# Altium integrated library NSC MiscPower.IntLib: 1417 symbols (part 27 of 39)
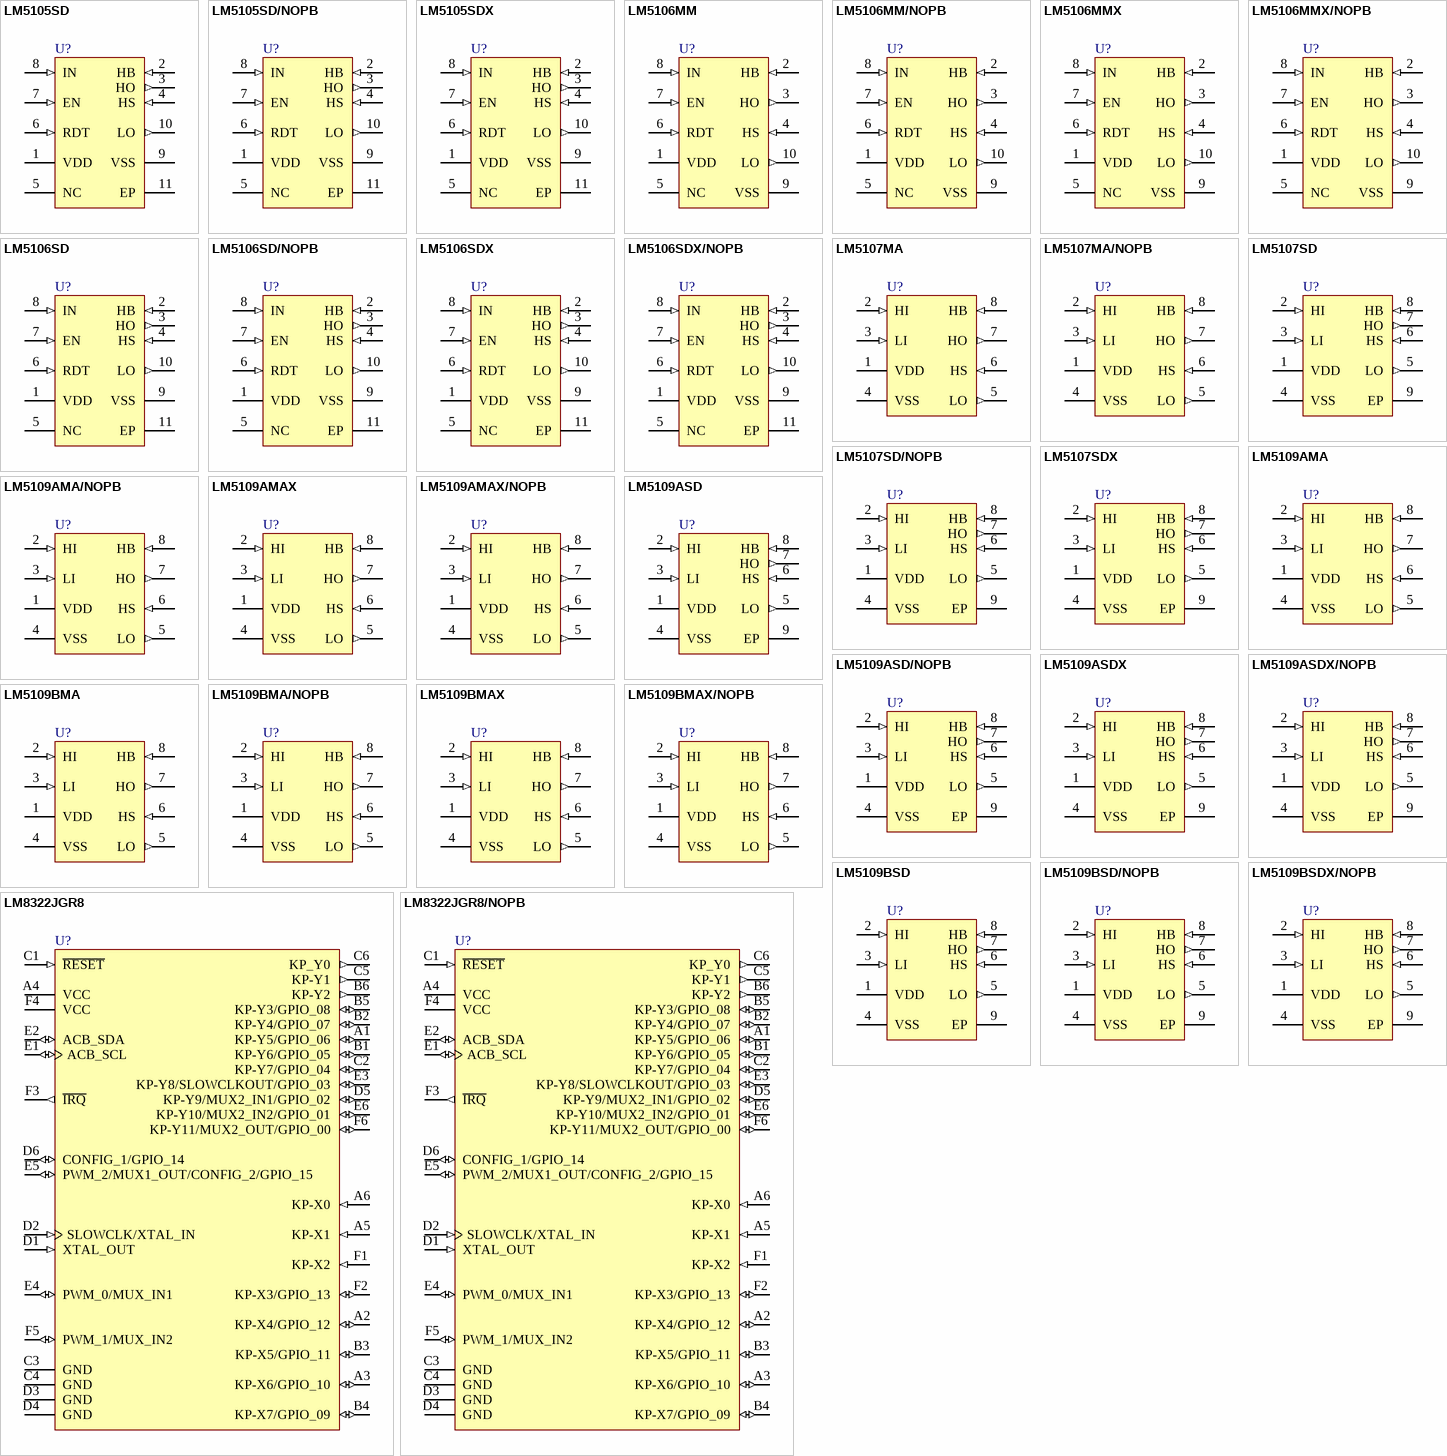
[diagram p77: symbols LM5105SD to LM8322JGR8/NOPB]

## LM5109BSDX/NOPB
designator U?
High Voltage 1A Peak Half Bridge Gate Driver, 8-pin LLP, Pb-Free; PartNumber: LM5109BSDX/NOPB; Manufacturer: National Semiconductor; PackageTopMarking: NS*UZXYTT*5109BSD; PowerWise: N; CompType: MiscPower; Published: 1-Mar-2010; DatasheetVersion: Feb-2007; PackageVersion: revA, Jun-2003; PackageReference: SDC08A; Publisher: Altium Limited; PackageDescription: LLP, Plastic, Dual, 4 x 4 x 0.8mm Body, 8 Lead, 0.8mm Pitch, No Pullback; Supplier 1: Digi-Key; Supplier Part Number 1: LM5109BSDX-ND; RoHS: Y; PinCount: 8; ComponentLink1Description: LM5109B Datasheet; ComponentLink1URL: http://www.national.com/ds/LM/LM5109B.pdf; ComponentLink2Description: LM5109B Web Page; ComponentLink2URL: http://www.national.com/pf/LM/LM5109B.html; ComponentLink3Description: SDC08A Package Page; ComponentLink3URL: http://www.national.com/packaging/folders/sdc08a.html
footprint SDC08A (SON, 8-Leads, Body 4x4mm, Pitch 0.8mm, NSC Recommended)
pins: 1 VDD (power), 2 HI (in), 3 LI (in), 4 VSS (power), 5 LO (out), 6 HS (in), 7 HO (out), 8 HB (in), 9 EP (power)

## LM8322JGR8
designator U?
Mobile I/O Companion Supporting Key-Scan, I/O Expansion, PWM, and ACCESS.bus Host Interface, 36-pin Micro-Array; PartNumber: LM8322JGR8; Manufacturer: National Semiconductor; PackageTopMarking: NS*UZXYTT*LM8322; PowerWise: N; CompType: MiscPower; Published: 4-Dec-2008; DatasheetVersion: May-2007; PackageVersion: revA, Mar-2004; PackageReference: GRA36A; Publisher: Altium Limited; PackageDescription: Micro-Array, 3.5 x 3.5 x 1mm, 36 Ball, 0.5mm Pitch; RoHS: Y; PinCount: 36; ComponentLink1Description: LM8322 Datasheet; ComponentLink1URL: http://www.national.com/ds/LM/LM8322.pdf; ComponentLink2Description: LM8322 Web Page; ComponentLink2URL: http://www.national.com/pf/LM/LM8322.html; ComponentLink3Description: GRA36A Package Page; ComponentLink3URL: http://www.national.com/packaging/folders/gra36a.html
footprint GRA36A (BGA, 36-Leads, Body 3.5x3.5mm, Pitch 0.5mm, NSC Recommended)
pins: A1 KP-Y5/GPIO_06 (io) "Keyboard scanning output 5, General-purpose I/O port 6", A2 KP-X4/GPIO_12 (io) "Wake-up input/Keyboard scanning input 4, General-purpose I/O port 12", A3 KP-X6/GPIO_10 (io) "Wake-up input/Keyboard scanning input 6, General-purpose I/O port 10", A4 VCC (power), A5 KP-X1 (in) "Wake-up input/Keyboard scanning input 1", A6 KP-X0 (in) "Wake-up input/Keyboard scanning input 0", B1 KP-Y6/GPIO_05 (io) "Keyboard scanning output 6, General-purpose I/O port 5", B2 KP-Y4/GPIO_07 (io) "Keyboard scanning output 4, General-purpose I/O port 7", B3 KP-X5/GPIO_11 (io) "Wake-up input/Keyboard scanning input 5, General-purpose I/O port 11", B4 KP-X7/GPIO_09 (io) "Wake-up input/Keyboard scanning input 7, General-purpose I/O port 9", B5 KP-Y3/GPIO_08 (io) "Keyboard scanning output 3, General-purpose I/O port 8", B6 KP-Y2 (out) "Keyboard scanning output 2", C1 ~{RESET} (in) "Reset Input", C2 KP-Y7/GPIO_04 (io) "Keyboard scanning output 7, General-purpose I/O port 4", C3 GND (power) "Ground", C4 GND (power) "Ground", C5 KP-Y1 (out) "Keyboard scanning output 1", C6 KP_Y0 (out) "Keyboard scanning output 0", D1 XTAL_OUT (in) "32.768 kHz crystal output", D2 SLOWCLK/XTAL_IN (in) "32.768 kHz clock, 32.768 kHz crystal input", D3 GND (power) "Ground", D4 GND (power) "Ground", D5 KP-Y9/MUX2_IN1/GPIO_02 (io) "Keyboard scanning output 9, Multiplexer 2 input 1, General-purpose I/O port 2", D6 CONFIG_1/GPIO_14 (io) "Slave address select input 1, General-purpose I/O port 14", E1 ACB_SCL (io) "ACCESS.bus clock signal", E2 ACB_SDA (io) "ACCESS.bus data signal", E3 KP-Y8/SLOWCLKOUT/GPIO_03 (io) "Keyboard scanning output 8, 32.768 kHz clock output, General-purpose I/O port 3", E4 PWM_0/MUX_IN1 (io) "Pulse-width modulated output 0, Multiplexer 1 input 1", E5 PWM_2/MUX1_OUT/CONFIG_2/GPIO_15 (io) "Pulse-width modulated output 2, Multiplexer 1 output, Slave address select input 2, General-purpose I/O port 15", E6 KP-Y10/MUX2_IN2/GPIO_01 (io) "Keyboard scanning output 10, Multiplexer 2 input 2, General-purpose I/O port 1", F1 KP-X2 (in) "Wake-up input/Keyboard scanning input 2", F2 KP-X3/GPIO_13 (io) "Wake-up input/Keyboard scanning input 3, General-purpose I/O port 13", F3 ~{IRQ} (out) "Interrupt request output", F4 VCC (power), F5 PWM_1/MUX_IN2 (io) "Pulse-width modulated output 1, Multiplexer 1 input 2", F6 KP-Y11/MUX2_OUT/GPIO_00 (io) "Keyboard scanning output 11, Multiplexer 2 output, General-purpose I/O port 0"

## LM8322JGR8/NOPB
designator U?
Mobile I/O Companion Supporting Key-Scan, I/O Expansion, PWM, and ACCESS.bus Host Interface, 36-pin Micro-Array, Pb-Free; PartNumber: LM8322JGR8/NOPB; Manufacturer: National Semiconductor; PackageTopMarking: NS*UZXYTT*LM8322; PowerWise: N; CompType: MiscPower; Published: 1-Mar-2010; DatasheetVersion: May-2007; PackageVersion: revA, Mar-2004; PackageReference: GRA36A; Publisher: Altium Limited; PackageDescription: Micro-Array, 3.5 x 3.5 x 1mm, 36 Ball, 0.5mm Pitch; Supplier 1: Digi-Key; Supplier Part Number 1: LM8322JGR8TR-ND; Supplier 2: Digi-Key; Supplier Part Number 2: LM8322JGR8CT-ND; Supplier 3: Digi-Key; Supplier Part Number 3: LM8322JGR8DKR-ND; RoHS: Y; PinCount: 36; ComponentLink1Description: LM8322 Datasheet; ComponentLink1URL: http://www.national.com/ds/LM/LM8322.pdf; ComponentLink2Description: LM8322 Web Page; ComponentLink2URL: http://www.national.com/pf/LM/LM8322.html; ComponentLink3Description: GRA36A Package Page; ComponentLink3URL: http://www.national.com/packaging/folders/gra36a.html
footprint GRA36A (BGA, 36-Leads, Body 3.5x3.5mm, Pitch 0.5mm, NSC Recommended)
pins: A1 KP-Y5/GPIO_06 (io) "Keyboard scanning output 5, General-purpose I/O port 6", A2 KP-X4/GPIO_12 (io) "Wake-up input/Keyboard scanning input 4, General-purpose I/O port 12", A3 KP-X6/GPIO_10 (io) "Wake-up input/Keyboard scanning input 6, General-purpose I/O port 10", A4 VCC (power), A5 KP-X1 (in) "Wake-up input/Keyboard scanning input 1", A6 KP-X0 (in) "Wake-up input/Keyboard scanning input 0", B1 KP-Y6/GPIO_05 (io) "Keyboard scanning output 6, General-purpose I/O port 5", B2 KP-Y4/GPIO_07 (io) "Keyboard scanning output 4, General-purpose I/O port 7", B3 KP-X5/GPIO_11 (io) "Wake-up input/Keyboard scanning input 5, General-purpose I/O port 11", B4 KP-X7/GPIO_09 (io) "Wake-up input/Keyboard scanning input 7, General-purpose I/O port 9", B5 KP-Y3/GPIO_08 (io) "Keyboard scanning output 3, General-purpose I/O port 8", B6 KP-Y2 (out) "Keyboard scanning output 2", C1 ~{RESET} (in) "Reset Input", C2 KP-Y7/GPIO_04 (io) "Keyboard scanning output 7, General-purpose I/O port 4", C3 GND (power) "Ground", C4 GND (power) "Ground", C5 KP-Y1 (out) "Keyboard scanning output 1", C6 KP_Y0 (out) "Keyboard scanning output 0", D1 XTAL_OUT (in) "32.768 kHz crystal output", D2 SLOWCLK/XTAL_IN (in) "32.768 kHz clock, 32.768 kHz crystal input", D3 GND (power) "Ground", D4 GND (power) "Ground", D5 KP-Y9/MUX2_IN1/GPIO_02 (io) "Keyboard scanning output 9, Multiplexer 2 input 1, General-purpose I/O port 2", D6 CONFIG_1/GPIO_14 (io) "Slave address select input 1, General-purpose I/O port 14", E1 ACB_SCL (io) "ACCESS.bus clock signal", E2 ACB_SDA (io) "ACCESS.bus data signal", E3 KP-Y8/SLOWCLKOUT/GPIO_03 (io) "Keyboard scanning output 8, 32.768 kHz clock output, General-purpose I/O port 3", E4 PWM_0/MUX_IN1 (io) "Pulse-width modulated output 0, Multiplexer 1 input 1", E5 PWM_2/MUX1_OUT/CONFIG_2/GPIO_15 (io) "Pulse-width modulated output 2, Multiplexer 1 output, Slave address select input 2, General-purpose I/O port 15", E6 KP-Y10/MUX2_IN2/GPIO_01 (io) "Keyboard scanning output 10, Multiplexer 2 input 2, General-purpose I/O port 1", F1 KP-X2 (in) "Wake-up input/Keyboard scanning input 2", F2 KP-X3/GPIO_13 (io) "Wake-up input/Keyboard scanning input 3, General-purpose I/O port 13", F3 ~{IRQ} (out) "Interrupt request output", F4 VCC (power), F5 PWM_1/MUX_IN2 (io) "Pulse-width modulated output 1, Multiplexer 1 input 2", F6 KP-Y11/MUX2_OUT/GPIO_00 (io) "Keyboard scanning output 11, Multiplexer 2 output, General-purpose I/O port 0"

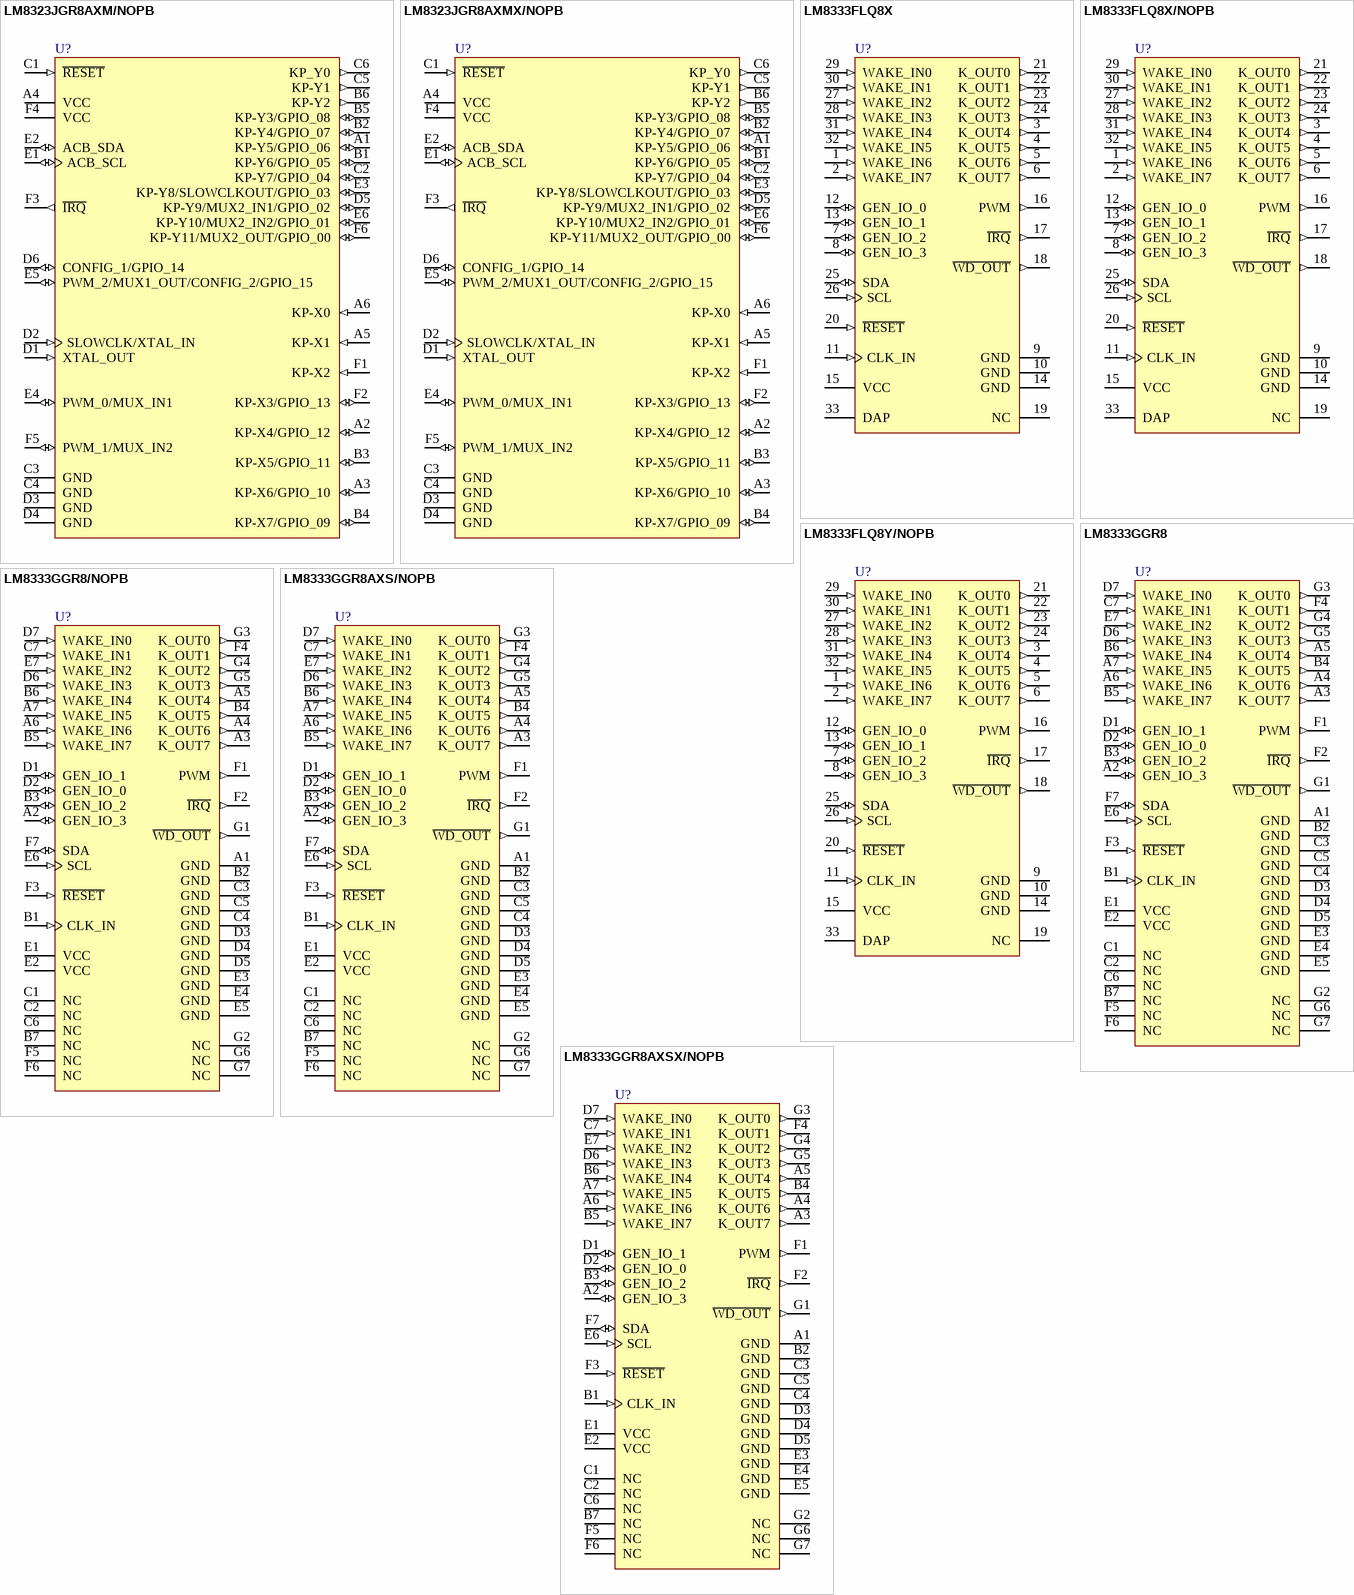
[diagram p29: symbols LM8323JGR8AXM/NOPB to LM8333GGR8AXSX/NOPB]

## LM8323JGR8AXM/NOPB
designator U?
Mobile I/O Companion Supporting Keyscan, I/O Expansion, PWM, and ACCESS.bus Host Interface, 36 pin MICRO-ARRAY; PartNumber: LM8323JGR8AXM/NOPB; Manufacturer: National Semiconductor; PackageTopMarking: NS*UZXYTT*LM8323; PowerWise: N; CompType: MiscPower; Published: 16-Nov-2010; DatasheetVersion: Jul-2010; PackageVersion: revA, Mar-2004; PackageReference: GRA36A; Publisher: Altium Limited; PackageDescription: Micro-Array, 3.5 x 3.5 x 1mm, 36 Ball, 0.5mm Pitch; RoHS: Y; PinCount: 36; ComponentLink1Description: LM8323 Datasheet; ComponentLink1URL: http://www.national.com/ds/LM/LM8323.pdf; ComponentLink2Description: LM8323 Web Page; ComponentLink2URL: http://www.national.com/pf/LM/LM8323.html; ComponentLink3Description: GRA36A Package Page; ComponentLink3URL: http://www.national.com/packaging/folders/gra36a.html
footprint GRA36A (BGA, 36-Leads, Body 3.5x3.5mm, Pitch 0.5mm, NSC Recommended)
pins: A1 KP-Y5/GPIO_06 (io) "Keyboard scanning output 5, General-purpose I/O port 6", A2 KP-X4/GPIO_12 (io) "Wake-up input/Keyboard scanning input 4, General-purpose I/O port 12", A3 KP-X6/GPIO_10 (io) "Wake-up input/Keyboard scanning input 6, General-purpose I/O port 10", A4 VCC (power), A5 KP-X1 (in) "Wake-up input/Keyboard scanning input 1", A6 KP-X0 (in) "Wake-up input/Keyboard scanning input 0", B1 KP-Y6/GPIO_05 (io) "Keyboard scanning output 6, General-purpose I/O port 5", B2 KP-Y4/GPIO_07 (io) "Keyboard scanning output 4, General-purpose I/O port 7", B3 KP-X5/GPIO_11 (io) "Wake-up input/Keyboard scanning input 5, General-purpose I/O port 11", B4 KP-X7/GPIO_09 (io) "Wake-up input/Keyboard scanning input 7, General-purpose I/O port 9", B5 KP-Y3/GPIO_08 (io) "Keyboard scanning output 3, General-purpose I/O port 8", B6 KP-Y2 (out) "Keyboard scanning output 2", C1 ~{RESET} (in) "Reset Input", C2 KP-Y7/GPIO_04 (io) "Keyboard scanning output 7, General-purpose I/O port 4", C3 GND (power) "Ground", C4 GND (power) "Ground", C5 KP-Y1 (out) "Keyboard scanning output 1", C6 KP_Y0 (out) "Keyboard scanning output 0", D1 XTAL_OUT (in) "32.768 kHz crystal output", D2 SLOWCLK/XTAL_IN (in) "32.768 kHz clock, 32.768 kHz crystal input", D3 GND (power) "Ground", D4 GND (power) "Ground", D5 KP-Y9/MUX2_IN1/GPIO_02 (io) "Keyboard scanning output 9, Multiplexer 2 input 1, General-purpose I/O port 2", D6 CONFIG_1/GPIO_14 (io) "Slave address select input 1, General-purpose I/O port 14", E1 ACB_SCL (io) "ACCESS.bus clock signal", E2 ACB_SDA (io) "ACCESS.bus data signal", E3 KP-Y8/SLOWCLKOUT/GPIO_03 (io) "Keyboard scanning output 8, 32.768 kHz clock output, General-purpose I/O port 3", E4 PWM_0/MUX_IN1 (io) "Pulse-width modulated output 0, Multiplexer 1 input 1", E5 PWM_2/MUX1_OUT/CONFIG_2/GPIO_15 (io) "Pulse-width modulated output 2, Multiplexer 1 output, Slave address select input 2, General-purpose I/O port 15", E6 KP-Y10/MUX2_IN2/GPIO_01 (io) "Keyboard scanning output 10, Multiplexer 2 input 2, General-purpose I/O port 1", F1 KP-X2 (in) "Wake-up input/Keyboard scanning input 2", F2 KP-X3/GPIO_13 (io) "Wake-up input/Keyboard scanning input 3, General-purpose I/O port 13", F3 ~{IRQ} (out) "Interrupt request output", F4 VCC (power), F5 PWM_1/MUX_IN2 (io) "Pulse-width modulated output 1, Multiplexer 1 input 2", F6 KP-Y11/MUX2_OUT/GPIO_00 (io) "Keyboard scanning output 11, Multiplexer 2 output, General-purpose I/O port 0"

## LM8323JGR8AXMX/NOPB
designator U?
Mobile I/O Companion Supporting Keyscan, I/O Expansion, PWM, and ACCESS.bus Host Interface, 36 pin MICRO-ARRAY; PartNumber: LM8323JGR8AXMX/NOPB; Manufacturer: National Semiconductor; PackageTopMarking: NS*UZXYTT*LM8323; PowerWise: N; CompType: MiscPower; Published: 16-Nov-2010; DatasheetVersion: Jul-2010; PackageVersion: revA, Mar-2004; PackageReference: GRA36A; Publisher: Altium Limited; PackageDescription: Micro-Array, 3.5 x 3.5 x 1mm, 36 Ball, 0.5mm Pitch; RoHS: Y; PinCount: 36; ComponentLink1Description: LM8323 Datasheet; ComponentLink1URL: http://www.national.com/ds/LM/LM8323.pdf; ComponentLink2Description: LM8323 Web Page; ComponentLink2URL: http://www.national.com/pf/LM/LM8323.html; ComponentLink3Description: GRA36A Package Page; ComponentLink3URL: http://www.national.com/packaging/folders/gra36a.html
footprint GRA36A (BGA, 36-Leads, Body 3.5x3.5mm, Pitch 0.5mm, NSC Recommended)
pins: A1 KP-Y5/GPIO_06 (io) "Keyboard scanning output 5, General-purpose I/O port 6", A2 KP-X4/GPIO_12 (io) "Wake-up input/Keyboard scanning input 4, General-purpose I/O port 12", A3 KP-X6/GPIO_10 (io) "Wake-up input/Keyboard scanning input 6, General-purpose I/O port 10", A4 VCC (power), A5 KP-X1 (in) "Wake-up input/Keyboard scanning input 1", A6 KP-X0 (in) "Wake-up input/Keyboard scanning input 0", B1 KP-Y6/GPIO_05 (io) "Keyboard scanning output 6, General-purpose I/O port 5", B2 KP-Y4/GPIO_07 (io) "Keyboard scanning output 4, General-purpose I/O port 7", B3 KP-X5/GPIO_11 (io) "Wake-up input/Keyboard scanning input 5, General-purpose I/O port 11", B4 KP-X7/GPIO_09 (io) "Wake-up input/Keyboard scanning input 7, General-purpose I/O port 9", B5 KP-Y3/GPIO_08 (io) "Keyboard scanning output 3, General-purpose I/O port 8", B6 KP-Y2 (out) "Keyboard scanning output 2", C1 ~{RESET} (in) "Reset Input", C2 KP-Y7/GPIO_04 (io) "Keyboard scanning output 7, General-purpose I/O port 4", C3 GND (power) "Ground", C4 GND (power) "Ground", C5 KP-Y1 (out) "Keyboard scanning output 1", C6 KP_Y0 (out) "Keyboard scanning output 0", D1 XTAL_OUT (in) "32.768 kHz crystal output", D2 SLOWCLK/XTAL_IN (in) "32.768 kHz clock, 32.768 kHz crystal input", D3 GND (power) "Ground", D4 GND (power) "Ground", D5 KP-Y9/MUX2_IN1/GPIO_02 (io) "Keyboard scanning output 9, Multiplexer 2 input 1, General-purpose I/O port 2", D6 CONFIG_1/GPIO_14 (io) "Slave address select input 1, General-purpose I/O port 14", E1 ACB_SCL (io) "ACCESS.bus clock signal", E2 ACB_SDA (io) "ACCESS.bus data signal", E3 KP-Y8/SLOWCLKOUT/GPIO_03 (io) "Keyboard scanning output 8, 32.768 kHz clock output, General-purpose I/O port 3", E4 PWM_0/MUX_IN1 (io) "Pulse-width modulated output 0, Multiplexer 1 input 1", E5 PWM_2/MUX1_OUT/CONFIG_2/GPIO_15 (io) "Pulse-width modulated output 2, Multiplexer 1 output, Slave address select input 2, General-purpose I/O port 15", E6 KP-Y10/MUX2_IN2/GPIO_01 (io) "Keyboard scanning output 10, Multiplexer 2 input 2, General-purpose I/O port 1", F1 KP-X2 (in) "Wake-up input/Keyboard scanning input 2", F2 KP-X3/GPIO_13 (io) "Wake-up input/Keyboard scanning input 3, General-purpose I/O port 13", F3 ~{IRQ} (out) "Interrupt request output", F4 VCC (power), F5 PWM_1/MUX_IN2 (io) "Pulse-width modulated output 1, Multiplexer 1 input 2", F6 KP-Y11/MUX2_OUT/GPIO_00 (io) "Keyboard scanning output 11, Multiplexer 2 output, General-purpose I/O port 0"

## LM8333FLQ8X
designator U?
Mobile I/O Companion Supporting Key-Scan, I/O Expansion, PWM, and ACCESS.bus Host Interface, 32-pin LLP; PartNumber: LM8333FLQ8X; Manufacturer: National Semiconductor; PackageTopMarking: NS*UZXYTT*LM8333F; PowerWise: N; CompType: MiscPower; Published: 4-Dec-2008; DatasheetVersion: May-2010; PackageVersion: revA, Feb-2001; PackageReference: LQA32A; Publisher: Altium Limited; PackageDescription: LLP, Plastic, Quad, 6 x 6 x 0.8mm Body, 32 Lead, 0.5mm Pitch; RoHS: Y; PinCount: 32; ComponentLink1Description: LM8333 Datasheet; ComponentLink1URL: http://www.national.com/ds/LM/LM8333.pdf; ComponentLink2Description: LM8333 Web Page; ComponentLink2URL: http://www.national.com/pf/LM/LM8333.html; ComponentLink3Description: LQA32A Package Page; ComponentLink3URL: http://www.national.com/packaging/folders/lqa32a.html
footprint LQA32A (PQFN, 32-Leads, Body 6x6mm, Pitch 0.5mm, NSC Recommended)
pins: 1 WAKE_IN6 (in) "Wake-up input/Keyboard scanning input 6", 2 WAKE_IN7 (in) "Wake-up input/Keyboard scanning input 7", 3 K_OUT4 (out) "Keyboard scanning output 4", 4 K_OUT5 (out) "Keyboard scanning output 5", 5 K_OUT6 (out) "Keyboard scanning output 6", 6 K_OUT7 (out) "Keyboard scanning output 7", 7 GEN_IO_2 (io) "General-purpose I/O 2", 8 GEN_IO_3 (io) "General-purpose I/O 3", 9 GND (power) "Ground", 10 GND (power) "Ground", 11 CLK_IN (in) "Clock input", 12 GEN_IO_0 (io) "General-purpose I/O 0", 13 GEN_IO_1 (io) "General-purpose I/O 1", 14 GND (power) "Ground", 15 VCC (power) "Vcc", 16 PWM (out) "Pulse-width modulated output", 17 ~{IRQ} (out) "Interrupt request output", 18 ~{WD_OUT} (out) "Watchdog timer output", 19 NC "No connect", 20 ~{RESET} (in) "Reset input", 21 K_OUT0 (out) "Keyboard scanning output 0", 22 K_OUT1 (out) "Keyboard scanning output 1", 23 K_OUT2 (out) "Keyboard scanning output 2", 24 K_OUT3 (out) "Keyboard scanning output 3", 25 SDA (io) "ACCESS.bus data signal", 26 SCL (in) "ACCESS.bus clock signal", 27 WAKE_IN2 (in) "Wake-up input/Keyboard scanning input 2", 28 WAKE_IN3 (in) "Wake-up input/Keyboard scanning input 3", 29 WAKE_IN0 (in) "Wake-up input/Keyboard scanning input 0", 30 WAKE_IN1 (in) "Wake-up input/Keyboard scanning input 1", 31 WAKE_IN4 (in) "Wake-up input/Keyboard scanning input 4", 32 WAKE_IN5 (in) "Wake-up input/Keyboard scanning input 5", 33 DAP (power) "Ground"

## LM8333FLQ8X/NOPB
designator U?
Mobile I/O Companion Supporting Key-Scan, I/O Expansion, PWM, and ACCESS.bus Host Interface, 32-pin LLP, Pb-Free; PartNumber: LM8333FLQ8X/NOPB; Manufacturer: National Semiconductor; PackageTopMarking: NS*UZXYTTE#*LM8333F; PowerWise: N; CompType: MiscPower; Published: 1-Mar-2010; DatasheetVersion: May-2010; PackageVersion: revA, Feb-2001; PackageReference: LQA32A; Publisher: Altium Limited; PackageDescription: LLP, Plastic, Quad, 6 x 6 x 0.8mm Body, 32 Lead, 0.5mm Pitch; Supplier 1: Digi-Key; Supplier Part Number 1: LM8333FLQ8X-ND; RoHS: Y; PinCount: 32; ComponentLink1Description: LM8333 Datasheet; ComponentLink1URL: http://www.national.com/ds/LM/LM8333.pdf; ComponentLink2Description: LM8333 Web Page; ComponentLink2URL: http://www.national.com/pf/LM/LM8333.html; ComponentLink3Description: LQA32A Package Page; ComponentLink3URL: http://www.national.com/packaging/folders/lqa32a.html
footprint LQA32A (PQFN, 32-Leads, Body 6x6mm, Pitch 0.5mm, NSC Recommended)
pins: 1 WAKE_IN6 (in) "Wake-up input/Keyboard scanning input 6", 2 WAKE_IN7 (in) "Wake-up input/Keyboard scanning input 7", 3 K_OUT4 (out) "Keyboard scanning output 4", 4 K_OUT5 (out) "Keyboard scanning output 5", 5 K_OUT6 (out) "Keyboard scanning output 6", 6 K_OUT7 (out) "Keyboard scanning output 7", 7 GEN_IO_2 (io) "General-purpose I/O 2", 8 GEN_IO_3 (io) "General-purpose I/O 3", 9 GND (power) "Ground", 10 GND (power) "Ground", 11 CLK_IN (in) "Clock input", 12 GEN_IO_0 (io) "General-purpose I/O 0", 13 GEN_IO_1 (io) "General-purpose I/O 1", 14 GND (power) "Ground", 15 VCC (power) "Vcc", 16 PWM (out) "Pulse-width modulated output", 17 ~{IRQ} (out) "Interrupt request output", 18 ~{WD_OUT} (out) "Watchdog timer output", 19 NC "No connect", 20 ~{RESET} (in) "Reset input", 21 K_OUT0 (out) "Keyboard scanning output 0", 22 K_OUT1 (out) "Keyboard scanning output 1", 23 K_OUT2 (out) "Keyboard scanning output 2", 24 K_OUT3 (out) "Keyboard scanning output 3", 25 SDA (io) "ACCESS.bus data signal", 26 SCL (in) "ACCESS.bus clock signal", 27 WAKE_IN2 (in) "Wake-up input/Keyboard scanning input 2", 28 WAKE_IN3 (in) "Wake-up input/Keyboard scanning input 3", 29 WAKE_IN0 (in) "Wake-up input/Keyboard scanning input 0", 30 WAKE_IN1 (in) "Wake-up input/Keyboard scanning input 1", 31 WAKE_IN4 (in) "Wake-up input/Keyboard scanning input 4", 32 WAKE_IN5 (in) "Wake-up input/Keyboard scanning input 5", 33 DAP (power) "Ground"

## LM8333FLQ8Y/NOPB
designator U?
Mobile I/O Companion Supporting Key-Scan, I/O Expansion, PWM, and ACCESS.bus Host Interface, 32-pin LLP, Pb-Free; PartNumber: LM8333FLQ8Y/NOPB; Manufacturer: National Semiconductor; PackageTopMarking: NS*UZXYTTE#*LM8333F; PowerWise: N; CompType: MiscPower; Published: 1-Mar-2010; DatasheetVersion: May-2010; PackageVersion: revA, Feb-2001; PackageReference: LQA32A; Publisher: Altium Limited; PackageDescription: LLP, Plastic, Quad, 6 x 6 x 0.8mm Body, 32 Lead, 0.5mm Pitch; Supplier 1: Digi-Key; Supplier Part Number 1: LM8333FLQ8YTR-ND; Supplier 2: Digi-Key; Supplier Part Number 2: LM8333FLQ8YCT-ND; Supplier 3: Digi-Key; Supplier Part Number 3: LM8333FLQ8YDKR-ND; RoHS: Y; PinCount: 32; ComponentLink1Description: LM8333 Datasheet; ComponentLink1URL: http://www.national.com/ds/LM/LM8333.pdf; ComponentLink2Description: LM8333 Web Page; ComponentLink2URL: http://www.national.com/pf/LM/LM8333.html; ComponentLink3Description: LQA32A Package Page; ComponentLink3URL: http://www.national.com/packaging/folders/lqa32a.html
footprint LQA32A (PQFN, 32-Leads, Body 6x6mm, Pitch 0.5mm, NSC Recommended)
pins: 1 WAKE_IN6 (in) "Wake-up input/Keyboard scanning input 6", 2 WAKE_IN7 (in) "Wake-up input/Keyboard scanning input 7", 3 K_OUT4 (out) "Keyboard scanning output 4", 4 K_OUT5 (out) "Keyboard scanning output 5", 5 K_OUT6 (out) "Keyboard scanning output 6", 6 K_OUT7 (out) "Keyboard scanning output 7", 7 GEN_IO_2 (io) "General-purpose I/O 2", 8 GEN_IO_3 (io) "General-purpose I/O 3", 9 GND (power) "Ground", 10 GND (power) "Ground", 11 CLK_IN (in) "Clock input", 12 GEN_IO_0 (io) "General-purpose I/O 0", 13 GEN_IO_1 (io) "General-purpose I/O 1", 14 GND (power) "Ground", 15 VCC (power) "Vcc", 16 PWM (out) "Pulse-width modulated output", 17 ~{IRQ} (out) "Interrupt request output", 18 ~{WD_OUT} (out) "Watchdog timer output", 19 NC "No connect", 20 ~{RESET} (in) "Reset input", 21 K_OUT0 (out) "Keyboard scanning output 0", 22 K_OUT1 (out) "Keyboard scanning output 1", 23 K_OUT2 (out) "Keyboard scanning output 2", 24 K_OUT3 (out) "Keyboard scanning output 3", 25 SDA (io) "ACCESS.bus data signal", 26 SCL (in) "ACCESS.bus clock signal", 27 WAKE_IN2 (in) "Wake-up input/Keyboard scanning input 2", 28 WAKE_IN3 (in) "Wake-up input/Keyboard scanning input 3", 29 WAKE_IN0 (in) "Wake-up input/Keyboard scanning input 0", 30 WAKE_IN1 (in) "Wake-up input/Keyboard scanning input 1", 31 WAKE_IN4 (in) "Wake-up input/Keyboard scanning input 4", 32 WAKE_IN5 (in) "Wake-up input/Keyboard scanning input 5", 33 DAP (power) "Ground"

## LM8333GGR8
designator U?
Mobile I/O Companion Supporting Key-Scan, I/O Expansion, PWM, and ACCESS.bus Host Interface, 49-pin Micro-Array; PartNumber: LM8333GGR8; Manufacturer: National Semiconductor; PackageTopMarking: NS*UZXYTT*LM8333; PowerWise: N; CompType: MiscPower; Published: 4-Dec-2008; DatasheetVersion: May-2010; PackageVersion: revA, Nov-2003; PackageReference: GRA49A; Publisher: Altium Limited; PackageDescription: Micro-Array, 4 x 4 x 1mm Body, 49 Ball, 0.5mm Pitch; RoHS: Y; PinCount: 49; ComponentLink1Description: LM8333 Datasheet; ComponentLink1URL: http://www.national.com/ds/LM/LM8333.pdf; ComponentLink2Description: LM8333 Web Page; ComponentLink2URL: http://www.national.com/pf/LM/LM8333.html; ComponentLink3Description: GRA49A Package Page; ComponentLink3URL: http://www.national.com/packaging/folders/gra49a.html
footprint GRA49A (BGA, 49-Leads, Body 4x4mm, Pitch 0.5mm, NSC Recommended)
pins: A1 GND (power) "Ground", A2 GEN_IO_3 (io) "General-purpose I/O 3", A3 K_OUT7 (out) "Keyboard scanning output 7", A4 K_OUT6 (out) "Keyboard scanning output 6", A5 K_OUT4 (out) "Keyboard scanning output 4", A6 WAKE_IN6 (in) "Wake-up input/Keyboard scanning input 6", A7 WAKE_IN5 (in) "Wake-up input/Keyboard scanning input 5", B1 CLK_IN (in) "Clock input", B2 GND (power) "Ground", B3 GEN_IO_2 (io) "General-purpose I/O 2", B4 K_OUT5 (out) "Keyboard scanning output 5", B5 WAKE_IN7 (in) "Wake-up input/Keyboard scanning input 7", B6 WAKE_IN4 (in) "Wake-up input/Keyboard scanning input 4", B7 NC "No connect", C1 NC "No connect", C2 NC "No connect", C3 GND (power) "Ground", C4 GND (power) "Ground", C5 GND (power) "Ground", C6 NC "No connect", C7 WAKE_IN1 (in) "Wake-up input/Keyboard scanning input 1", D1 GEN_IO_1 (io) "General-purpose I/O 1", D2 GEN_IO_0 (io) "General-purpose I/O 0", D3 GND (power) "Ground", D4 GND (power) "Ground", D5 GND (power) "Ground", D6 WAKE_IN3 (in) "Wake-up input/Keyboard scanning input 3", D7 WAKE_IN0 (in) "Wake-up input/Keyboard scanning input 0", E1 VCC (power) "Vcc", E2 VCC (power) "Vcc", E3 GND (power) "Ground", E4 GND (power) "Ground", E5 GND (power) "Ground", E6 SCL (in) "ACCESS.bus clock signal", E7 WAKE_IN2 (in) "Wake-up input/Keyboard scanning input 2", F1 PWM (out) "Pulse-width modulated output", F2 ~{IRQ} (out) "Interrupt request output", F3 ~{RESET} (in) "Reset input", F4 K_OUT1 (out) "Keyboard scanning output 1", F5 NC "No connect", F6 NC "No connect", F7 SDA (io) "ACCESS.bus data signal", G1 ~{WD_OUT} (out) "Watchdog timer output", G2 NC "No connect", G3 K_OUT0 (out) "Keyboard scanning output 0", G4 K_OUT2 (out) "Keyboard scanning output 2", G5 K_OUT3 (out) "Keyboard scanning output 3", G6 NC "No connect", G7 NC "No connect"

## LM8333GGR8/NOPB
designator U?
Mobile I/O Companion Supporting Key-Scan, I/O Expansion, PWM, and ACCESS.bus Host Interface, 49-pin Micro-Array, Pb-Free; PartNumber: LM8333GGR8/NOPB; Manufacturer: National Semiconductor; PackageTopMarking: NS*UZXYTT*LM8333; PowerWise: N; CompType: MiscPower; Published: 1-Mar-2010; DatasheetVersion: May-2010; PackageVersion: revA, Nov-2003; PackageReference: GRA49A; Publisher: Altium Limited; PackageDescription: Micro-Array, 4 x 4 x 1mm Body, 49 Ball, 0.5mm Pitch; Supplier 1: Digi-Key; Supplier Part Number 1: LM8333GGR8TR-ND; Supplier 2: Digi-Key; Supplier Part Number 2: LM8333GGR8CT-ND; Supplier 3: Digi-Key; Supplier Part Number 3: LM8333GGR8DKR-ND; RoHS: Y; PinCount: 49; ComponentLink1Description: LM8333 Datasheet; ComponentLink1URL: http://www.national.com/ds/LM/LM8333.pdf; ComponentLink2Description: LM8333 Web Page; ComponentLink2URL: http://www.national.com/pf/LM/LM8333.html; ComponentLink3Description: GRA49A Package Page; ComponentLink3URL: http://www.national.com/packaging/folders/gra49a.html
footprint GRA49A (BGA, 49-Leads, Body 4x4mm, Pitch 0.5mm, NSC Recommended)
pins: A1 GND (power) "Ground", A2 GEN_IO_3 (io) "General-purpose I/O 3", A3 K_OUT7 (out) "Keyboard scanning output 7", A4 K_OUT6 (out) "Keyboard scanning output 6", A5 K_OUT4 (out) "Keyboard scanning output 4", A6 WAKE_IN6 (in) "Wake-up input/Keyboard scanning input 6", A7 WAKE_IN5 (in) "Wake-up input/Keyboard scanning input 5", B1 CLK_IN (in) "Clock input", B2 GND (power) "Ground", B3 GEN_IO_2 (io) "General-purpose I/O 2", B4 K_OUT5 (out) "Keyboard scanning output 5", B5 WAKE_IN7 (in) "Wake-up input/Keyboard scanning input 7", B6 WAKE_IN4 (in) "Wake-up input/Keyboard scanning input 4", B7 NC "No connect", C1 NC "No connect", C2 NC "No connect", C3 GND (power) "Ground", C4 GND (power) "Ground", C5 GND (power) "Ground", C6 NC "No connect", C7 WAKE_IN1 (in) "Wake-up input/Keyboard scanning input 1", D1 GEN_IO_1 (io) "General-purpose I/O 1", D2 GEN_IO_0 (io) "General-purpose I/O 0", D3 GND (power) "Ground", D4 GND (power) "Ground", D5 GND (power) "Ground", D6 WAKE_IN3 (in) "Wake-up input/Keyboard scanning input 3", D7 WAKE_IN0 (in) "Wake-up input/Keyboard scanning input 0", E1 VCC (power) "Vcc", E2 VCC (power) "Vcc", E3 GND (power) "Ground", E4 GND (power) "Ground", E5 GND (power) "Ground", E6 SCL (in) "ACCESS.bus clock signal", E7 WAKE_IN2 (in) "Wake-up input/Keyboard scanning input 2", F1 PWM (out) "Pulse-width modulated output", F2 ~{IRQ} (out) "Interrupt request output", F3 ~{RESET} (in) "Reset input", F4 K_OUT1 (out) "Keyboard scanning output 1", F5 NC "No connect", F6 NC "No connect", F7 SDA (io) "ACCESS.bus data signal", G1 ~{WD_OUT} (out) "Watchdog timer output", G2 NC "No connect", G3 K_OUT0 (out) "Keyboard scanning output 0", G4 K_OUT2 (out) "Keyboard scanning output 2", G5 K_OUT3 (out) "Keyboard scanning output 3", G6 NC "No connect", G7 NC "No connect"

## LM8333GGR8AXS/NOPB
designator U?
Mobile I/O Companion Supporting Key-Scan, I/O Expansion, PWM, and ACCESS.bus Host Interface, 49 pin MICRO-ARRAY; PartNumber: LM8333GGR8AXS/NOPB; Manufacturer: National Semiconductor; PackageTopMarking: NS*UZXYTT*8333AXS; PowerWise: N; CompType: MiscPower; Published: 16-Nov-2010; DatasheetVersion: May-2010; PackageVersion: revA, Nov-2003; PackageReference: GRA49A; Publisher: Altium Limited; PackageDescription: Micro-Array, 4 x 4 x 1mm Body, 49 Ball, 0.5mm Pitch; RoHS: Y; PinCount: 49; ComponentLink1Description: LM8333 Datasheet; ComponentLink1URL: http://www.national.com/ds/LM/LM8333.pdf; ComponentLink2Description: LM8333 Web Page; ComponentLink2URL: http://www.national.com/pf/LM/LM8333.html; ComponentLink3Description: GRA49A Package Page; ComponentLink3URL: http://www.national.com/packaging/folders/gra49a.html
footprint GRA49A (BGA, 49-Leads, Body 4x4mm, Pitch 0.5mm, NSC Recommended)
pins: A1 GND (power) "Ground", A2 GEN_IO_3 (io) "General-purpose I/O 3", A3 K_OUT7 (out) "Keyboard scanning output 7", A4 K_OUT6 (out) "Keyboard scanning output 6", A5 K_OUT4 (out) "Keyboard scanning output 4", A6 WAKE_IN6 (in) "Wake-up input/Keyboard scanning input 6", A7 WAKE_IN5 (in) "Wake-up input/Keyboard scanning input 5", B1 CLK_IN (in) "Clock input", B2 GND (power) "Ground", B3 GEN_IO_2 (io) "General-purpose I/O 2", B4 K_OUT5 (out) "Keyboard scanning output 5", B5 WAKE_IN7 (in) "Wake-up input/Keyboard scanning input 7", B6 WAKE_IN4 (in) "Wake-up input/Keyboard scanning input 4", B7 NC "No connect", C1 NC "No connect", C2 NC "No connect", C3 GND (power) "Ground", C4 GND (power) "Ground", C5 GND (power) "Ground", C6 NC "No connect", C7 WAKE_IN1 (in) "Wake-up input/Keyboard scanning input 1", D1 GEN_IO_1 (io) "General-purpose I/O 1", D2 GEN_IO_0 (io) "General-purpose I/O 0", D3 GND (power) "Ground", D4 GND (power) "Ground", D5 GND (power) "Ground", D6 WAKE_IN3 (in) "Wake-up input/Keyboard scanning input 3", D7 WAKE_IN0 (in) "Wake-up input/Keyboard scanning input 0", E1 VCC (power) "Vcc", E2 VCC (power) "Vcc", E3 GND (power) "Ground", E4 GND (power) "Ground", E5 GND (power) "Ground", E6 SCL (in) "ACCESS.bus clock signal", E7 WAKE_IN2 (in) "Wake-up input/Keyboard scanning input 2", F1 PWM (out) "Pulse-width modulated output", F2 ~{IRQ} (out) "Interrupt request output", F3 ~{RESET} (in) "Reset input", F4 K_OUT1 (out) "Keyboard scanning output 1", F5 NC "No connect", F6 NC "No connect", F7 SDA (io) "ACCESS.bus data signal", G1 ~{WD_OUT} (out) "Watchdog timer output", G2 NC "No connect", G3 K_OUT0 (out) "Keyboard scanning output 0", G4 K_OUT2 (out) "Keyboard scanning output 2", G5 K_OUT3 (out) "Keyboard scanning output 3", G6 NC "No connect", G7 NC "No connect"

## LM8333GGR8AXSX/NOPB
designator U?
Mobile I/O Companion Supporting Key-Scan, I/O Expansion, PWM, and ACCESS.bus Host Interface, 49 pin MICRO-ARRAY; PartNumber: LM8333GGR8AXSX/NOPB; Manufacturer: National Semiconductor; PackageTopMarking: NS*UZXYTT*8333AXS; PowerWise: N; CompType: MiscPower; Published: 16-Nov-2010; DatasheetVersion: May-2010; PackageVersion: revA, Nov-2003; PackageReference: GRA49A; Publisher: Altium Limited; PackageDescription: Micro-Array, 4 x 4 x 1mm Body, 49 Ball, 0.5mm Pitch; RoHS: Y; PinCount: 49; ComponentLink1Description: LM8333 Datasheet; ComponentLink1URL: http://www.national.com/ds/LM/LM8333.pdf; ComponentLink2Description: LM8333 Web Page; ComponentLink2URL: http://www.national.com/pf/LM/LM8333.html; ComponentLink3Description: GRA49A Package Page; ComponentLink3URL: http://www.national.com/packaging/folders/gra49a.html
footprint GRA49A (BGA, 49-Leads, Body 4x4mm, Pitch 0.5mm, NSC Recommended)
pins: A1 GND (power) "Ground", A2 GEN_IO_3 (io) "General-purpose I/O 3", A3 K_OUT7 (out) "Keyboard scanning output 7", A4 K_OUT6 (out) "Keyboard scanning output 6", A5 K_OUT4 (out) "Keyboard scanning output 4", A6 WAKE_IN6 (in) "Wake-up input/Keyboard scanning input 6", A7 WAKE_IN5 (in) "Wake-up input/Keyboard scanning input 5", B1 CLK_IN (in) "Clock input", B2 GND (power) "Ground", B3 GEN_IO_2 (io) "General-purpose I/O 2", B4 K_OUT5 (out) "Keyboard scanning output 5", B5 WAKE_IN7 (in) "Wake-up input/Keyboard scanning input 7", B6 WAKE_IN4 (in) "Wake-up input/Keyboard scanning input 4", B7 NC "No connect", C1 NC "No connect", C2 NC "No connect", C3 GND (power) "Ground", C4 GND (power) "Ground", C5 GND (power) "Ground", C6 NC "No connect", C7 WAKE_IN1 (in) "Wake-up input/Keyboard scanning input 1", D1 GEN_IO_1 (io) "General-purpose I/O 1", D2 GEN_IO_0 (io) "General-purpose I/O 0", D3 GND (power) "Ground", D4 GND (power) "Ground", D5 GND (power) "Ground", D6 WAKE_IN3 (in) "Wake-up input/Keyboard scanning input 3", D7 WAKE_IN0 (in) "Wake-up input/Keyboard scanning input 0", E1 VCC (power) "Vcc", E2 VCC (power) "Vcc", E3 GND (power) "Ground", E4 GND (power) "Ground", E5 GND (power) "Ground", E6 SCL (in) "ACCESS.bus clock signal", E7 WAKE_IN2 (in) "Wake-up input/Keyboard scanning input 2", F1 PWM (out) "Pulse-width modulated output", F2 ~{IRQ} (out) "Interrupt request output", F3 ~{RESET} (in) "Reset input", F4 K_OUT1 (out) "Keyboard scanning output 1", F5 NC "No connect", F6 NC "No connect", F7 SDA (io) "ACCESS.bus data signal", G1 ~{WD_OUT} (out) "Watchdog timer output", G2 NC "No connect", G3 K_OUT0 (out) "Keyboard scanning output 0", G4 K_OUT2 (out) "Keyboard scanning output 2", G5 K_OUT3 (out) "Keyboard scanning output 3", G6 NC "No connect", G7 NC "No connect"

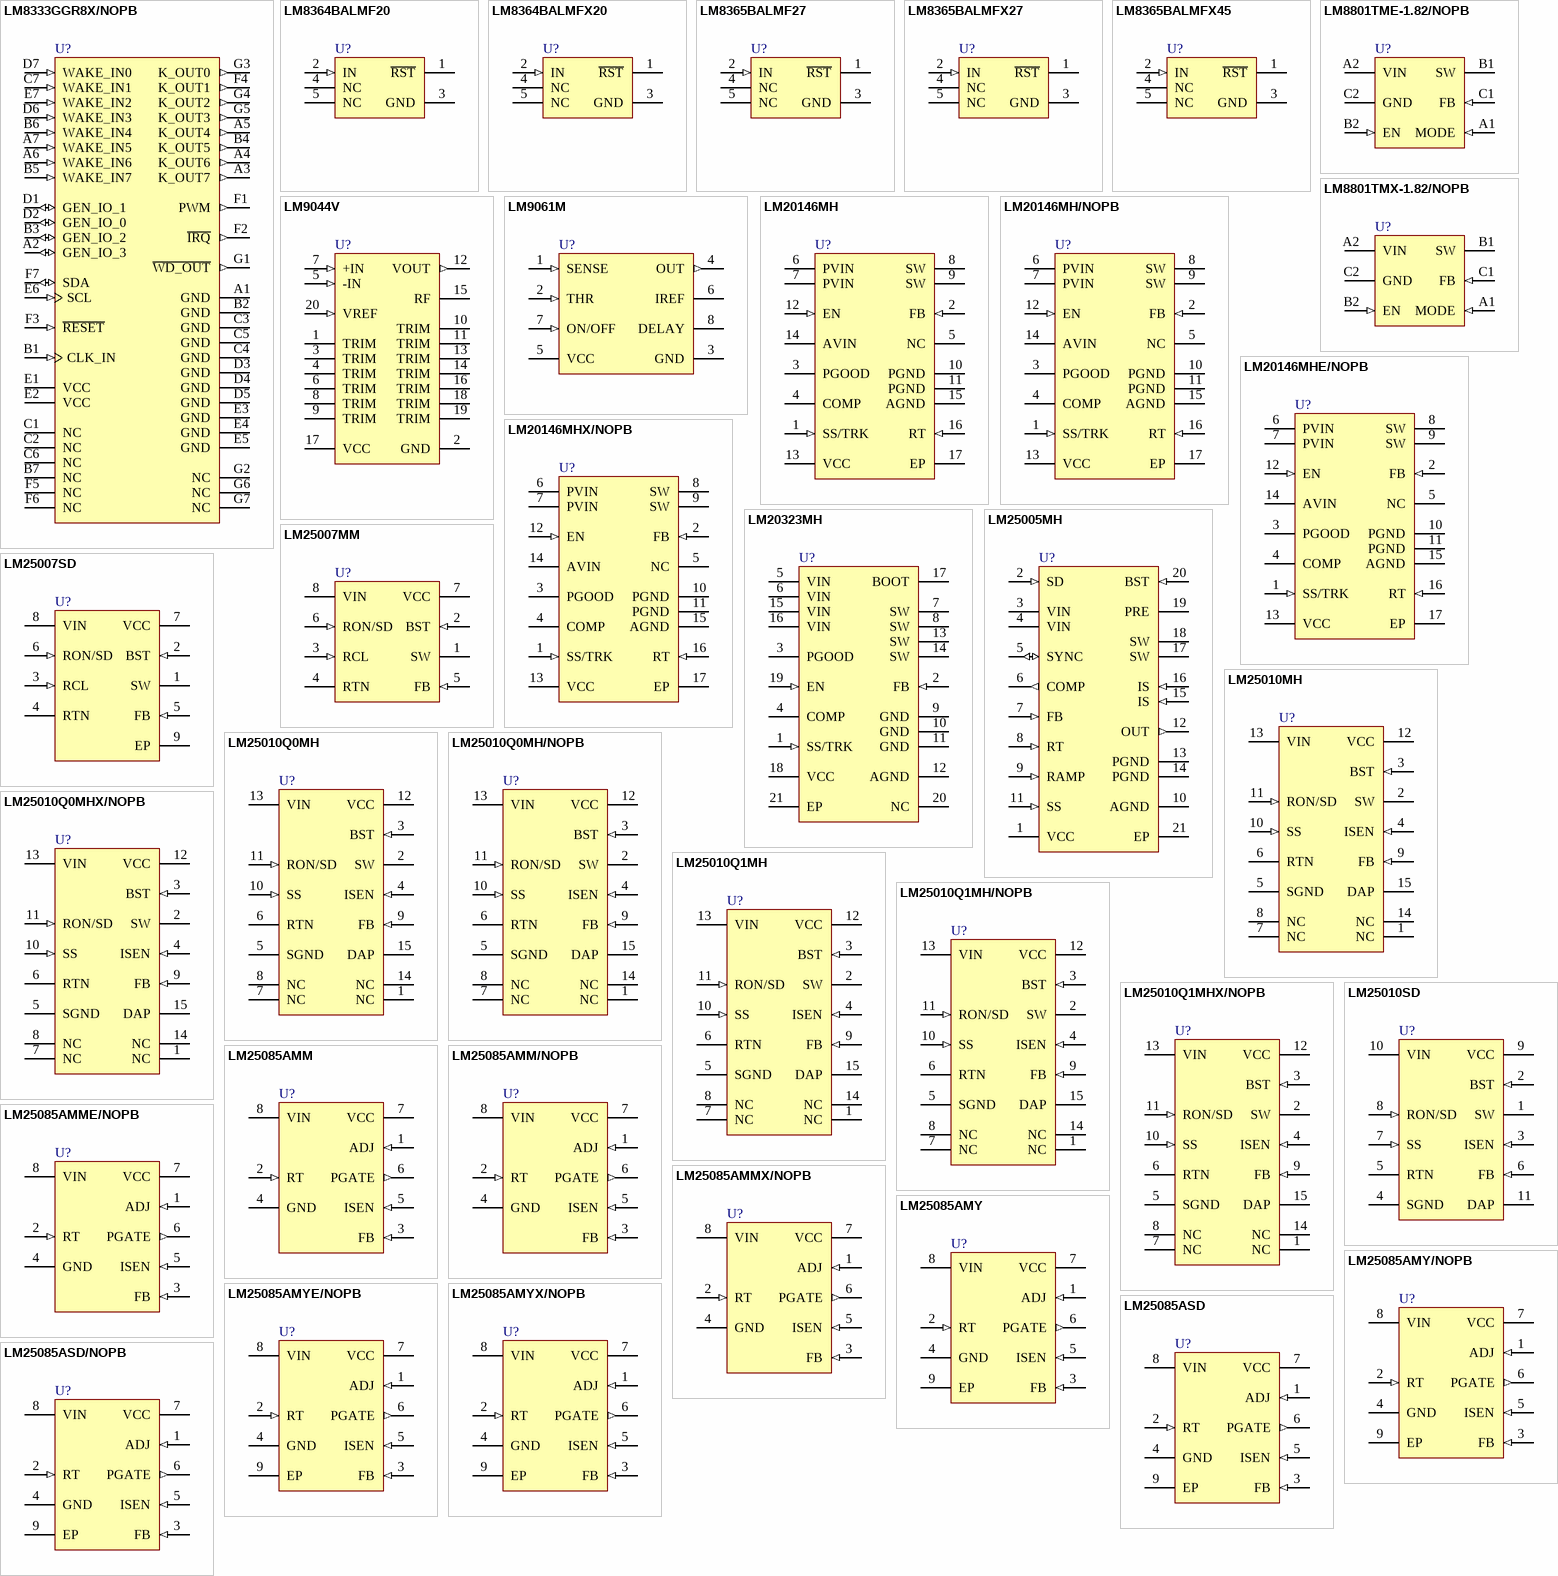
[diagram p30: symbols LM8333GGR8X/NOPB to LM25085ASD/NOPB]

## LM8333GGR8X/NOPB
designator U?
Mobile I/O Companion Supporting Key-Scan, I/O Expansion, PWM, and ACCESS.bus Host Interface, 49-pin Micro-Array, Pb-Free; PartNumber: LM8333GGR8X/NOPB; Manufacturer: National Semiconductor; PackageTopMarking: NS*UZXYTT*LM8333; PowerWise: N; CompType: MiscPower; Published: 1-Mar-2010; DatasheetVersion: May-2010; PackageVersion: revA, Nov-2003; PackageReference: GRA49A; Publisher: Altium Limited; PackageDescription: Micro-Array, 4 x 4 x 1mm Body, 49 Ball, 0.5mm Pitch; Supplier 1: Digi-Key; Supplier Part Number 1: LM8333GGR8X-ND; RoHS: Y; PinCount: 49; ComponentLink1Description: LM8333 Datasheet; ComponentLink1URL: http://www.national.com/ds/LM/LM8333.pdf; ComponentLink2Description: LM8333 Web Page; ComponentLink2URL: http://www.national.com/pf/LM/LM8333.html; ComponentLink3Description: GRA49A Package Page; ComponentLink3URL: http://www.national.com/packaging/folders/gra49a.html
footprint GRA49A (BGA, 49-Leads, Body 4x4mm, Pitch 0.5mm, NSC Recommended)
pins: A1 GND (power) "Ground", A2 GEN_IO_3 (io) "General-purpose I/O 3", A3 K_OUT7 (out) "Keyboard scanning output 7", A4 K_OUT6 (out) "Keyboard scanning output 6", A5 K_OUT4 (out) "Keyboard scanning output 4", A6 WAKE_IN6 (in) "Wake-up input/Keyboard scanning input 6", A7 WAKE_IN5 (in) "Wake-up input/Keyboard scanning input 5", B1 CLK_IN (in) "Clock input", B2 GND (power) "Ground", B3 GEN_IO_2 (io) "General-purpose I/O 2", B4 K_OUT5 (out) "Keyboard scanning output 5", B5 WAKE_IN7 (in) "Wake-up input/Keyboard scanning input 7", B6 WAKE_IN4 (in) "Wake-up input/Keyboard scanning input 4", B7 NC "No connect", C1 NC "No connect", C2 NC "No connect", C3 GND (power) "Ground", C4 GND (power) "Ground", C5 GND (power) "Ground", C6 NC "No connect", C7 WAKE_IN1 (in) "Wake-up input/Keyboard scanning input 1", D1 GEN_IO_1 (io) "General-purpose I/O 1", D2 GEN_IO_0 (io) "General-purpose I/O 0", D3 GND (power) "Ground", D4 GND (power) "Ground", D5 GND (power) "Ground", D6 WAKE_IN3 (in) "Wake-up input/Keyboard scanning input 3", D7 WAKE_IN0 (in) "Wake-up input/Keyboard scanning input 0", E1 VCC (power) "Vcc", E2 VCC (power) "Vcc", E3 GND (power) "Ground", E4 GND (power) "Ground", E5 GND (power) "Ground", E6 SCL (in) "ACCESS.bus clock signal", E7 WAKE_IN2 (in) "Wake-up input/Keyboard scanning input 2", F1 PWM (out) "Pulse-width modulated output", F2 ~{IRQ} (out) "Interrupt request output", F3 ~{RESET} (in) "Reset input", F4 K_OUT1 (out) "Keyboard scanning output 1", F5 NC "No connect", F6 NC "No connect", F7 SDA (io) "ACCESS.bus data signal", G1 ~{WD_OUT} (out) "Watchdog timer output", G2 NC "No connect", G3 K_OUT0 (out) "Keyboard scanning output 0", G4 K_OUT2 (out) "Keyboard scanning output 2", G5 K_OUT3 (out) "Keyboard scanning output 3", G6 NC "No connect", G7 NC "No connect"

## LM8364BALMF20
designator U?
Micropower Undervoltage Sensing Circuits, Open Drain Active Low Output, 2.0V Threshold, 5-pin SOT-23; PartNumber: LM8364BALMF20; Manufacturer: National Semiconductor; PackageTopMarking: F01A*XTT; PowerWise: N; CompType: MiscPower; Published: 4-Dec-2008; DatasheetVersion: Mar-2005; PackageVersion: revD, Aug-2008; PackageReference: MF05A; Publisher: Altium Limited; PackageDescription: Molded SOT-23, .115 x .063 x .040 in Body, 5 Lead, .0375 in Pitch; Supplier 1: Farnell; Supplier Part Number 1: 9779485; RoHS: N; PinCount: 5; ComponentLink1Description: LM8364 Datasheet; ComponentLink1URL: http://www.national.com/ds/LM/LM8364.pdf; ComponentLink2Description: LM8364 Web Page; ComponentLink2URL: http://www.national.com/pf/LM/LM8364.html; ComponentLink3Description: MF05A Package Page; ComponentLink3URL: http://www.national.com/packaging/folders/mf05a.html
footprint MF05A_N (SOT23, 5-Leads, Body 2.9x1.6mm, Pitch 0.95mm, Lead Span 2.8mm, IPC Medium Density)
footprint MF05A_L (SOT23, 5-Leads, Body 2.9x1.6mm, Pitch 0.95mm, Lead Span 2.8mm, IPC High Density)
footprint MF05A_M (SOT23, 5-Leads, Body 2.9x1.6mm, Pitch 0.95mm, Lead Span 2.8mm, IPC Low Density)
pins: 1 ~{RST} (oc), 2 IN (in), 3 GND (power), 4 NC, 5 NC

## LM8364BALMFX20
designator U?
Micropower Undervoltage Sensing Circuits, 5-pin SOT-23; PartNumber: LM8364BALMFX20; Manufacturer: National Semiconductor; PackageTopMarking: F01A*XTT; PowerWise: N; CompType: MiscPower; Published: 1-Mar-2010; DatasheetVersion: Mar-2005; PackageVersion: revD, Aug-2008; PackageReference: MF05A; Publisher: Altium Limited; PackageDescription: Molded SOT-23, .115 x .063 x .040 in Body, 5 Lead, .0375 in Pitch; RoHS: N; PinCount: 5; ComponentLink1Description: LM8364 Datasheet; ComponentLink1URL: http://www.national.com/ds/LM/LM8364.pdf; ComponentLink2Description: LM8364 Web Page; ComponentLink2URL: http://www.national.com/pf/LM/LM8364.html; ComponentLink3Description: MF05A Package Page; ComponentLink3URL: http://www.national.com/packaging/folders/mf05a.html
footprint MF05A_N (SOT23, 5-Leads, Body 2.9x1.6mm, Pitch 0.95mm, Lead Span 2.8mm, IPC Medium Density)
footprint MF05A_L (SOT23, 5-Leads, Body 2.9x1.6mm, Pitch 0.95mm, Lead Span 2.8mm, IPC High Density)
footprint MF05A_M (SOT23, 5-Leads, Body 2.9x1.6mm, Pitch 0.95mm, Lead Span 2.8mm, IPC Low Density)
pins: 1 ~{RST} (oc), 2 IN (in), 3 GND (power), 4 NC, 5 NC

## LM8365BALMF27
designator U?
Micropower Undervoltage Sensing Circuits with Programmable Output Delay, 2.7V Threshold, 5-pin SOT-23; PartNumber: LM8365BALMF27; Manufacturer: National Semiconductor; PackageTopMarking: F07A*XTT; PowerWise: N; CompType: MiscPower; Published: 4-Dec-2008; DatasheetVersion: Mar-2005; PackageVersion: revD, Aug-2008; PackageReference: MF05A; Publisher: Altium Limited; PackageDescription: Molded SOT-23, .115 x .063 x .040 in Body, 5 Lead, .0375 in Pitch; Supplier 1: Farnell; Supplier Part Number 1: 9779523RL; Supplier 2: Farnell; Supplier Part Number 2: 9779523; RoHS: N; PinCount: 5; ComponentLink1Description: LM8365 Datasheet; ComponentLink1URL: http://www.national.com/ds/LM/LM8365.pdf; ComponentLink2Description: LM8365 Web Page; ComponentLink2URL: http://www.national.com/pf/LM/LM8365.html; ComponentLink3Description: MF05A Package Page; ComponentLink3URL: http://www.national.com/packaging/folders/mf05a.html
footprint MF05A_N (SOT23, 5-Leads, Body 2.9x1.6mm, Pitch 0.95mm, Lead Span 2.8mm, IPC Medium Density)
footprint MF05A_L (SOT23, 5-Leads, Body 2.9x1.6mm, Pitch 0.95mm, Lead Span 2.8mm, IPC High Density)
footprint MF05A_M (SOT23, 5-Leads, Body 2.9x1.6mm, Pitch 0.95mm, Lead Span 2.8mm, IPC Low Density)
pins: 1 ~{RST} (oc), 2 IN (in), 3 GND (power), 4 NC, 5 NC

## LM8365BALMFX27
designator U?
Micropower Undervoltage Sensing Circuits with Programmable Output Delay, 5-pin SOT-23; PartNumber: LM8365BALMFX27; Manufacturer: National Semiconductor; PackageTopMarking: F07A*XTT; PowerWise: N; CompType: MiscPower; Published: 1-Mar-2010; DatasheetVersion: Mar-2005; PackageVersion: revD, Aug-2008; PackageReference: MF05A; Publisher: Altium Limited; PackageDescription: Molded SOT-23, .115 x .063 x .040 in Body, 5 Lead, .0375 in Pitch; RoHS: N; PinCount: 5; ComponentLink1Description: LM8365 Datasheet; ComponentLink1URL: http://www.national.com/ds/LM/LM8365.pdf; ComponentLink2Description: LM8365 Web Page; ComponentLink2URL: http://www.national.com/pf/LM/LM8365.html; ComponentLink3Description: MF05A Package Page; ComponentLink3URL: http://www.national.com/packaging/folders/mf05a.html
footprint MF05A_N (SOT23, 5-Leads, Body 2.9x1.6mm, Pitch 0.95mm, Lead Span 2.8mm, IPC Medium Density)
footprint MF05A_L (SOT23, 5-Leads, Body 2.9x1.6mm, Pitch 0.95mm, Lead Span 2.8mm, IPC High Density)
footprint MF05A_M (SOT23, 5-Leads, Body 2.9x1.6mm, Pitch 0.95mm, Lead Span 2.8mm, IPC Low Density)
pins: 1 ~{RST} (oc), 2 IN (in), 3 GND (power), 4 NC, 5 NC

## LM8365BALMFX45
designator U?
Micropower Undervoltage Sensing Circuits with Programmable Output Delay, 5-pin SOT-23; PartNumber: LM8365BALMFX45; Manufacturer: National Semiconductor; PackageTopMarking: F06A*XTT; PowerWise: N; CompType: MiscPower; Published: 1-Mar-2010; DatasheetVersion: Mar-2005; PackageVersion: revD, Aug-2008; PackageReference: MF05A; Publisher: Altium Limited; PackageDescription: Molded SOT-23, .115 x .063 x .040 in Body, 5 Lead, .0375 in Pitch; RoHS: N; PinCount: 5; ComponentLink1Description: LM8365 Datasheet; ComponentLink1URL: http://www.national.com/ds/LM/LM8365.pdf; ComponentLink2Description: LM8365 Web Page; ComponentLink2URL: http://www.national.com/pf/LM/LM8365.html; ComponentLink3Description: MF05A Package Page; ComponentLink3URL: http://www.national.com/packaging/folders/mf05a.html
footprint MF05A_N (SOT23, 5-Leads, Body 2.9x1.6mm, Pitch 0.95mm, Lead Span 2.8mm, IPC Medium Density)
footprint MF05A_L (SOT23, 5-Leads, Body 2.9x1.6mm, Pitch 0.95mm, Lead Span 2.8mm, IPC High Density)
footprint MF05A_M (SOT23, 5-Leads, Body 2.9x1.6mm, Pitch 0.95mm, Lead Span 2.8mm, IPC Low Density)
pins: 1 ~{RST} (oc), 2 IN (in), 3 GND (power), 4 NC, 5 NC

## LM8801TME-1.82/NOPB
designator U?
High Precision 6MHz, 600 mA Synchronous Step-Down DC-DC Converter for Mobile Applications, 6 pin MICRO SMD; PartNumber: LM8801TME-1.82/NOPB; Manufacturer: National Semiconductor; PackageTopMarking: XV*I E; PowerWise: Y; CompType: MiscPower; Published: 16-Nov-2010; DatasheetVersion: Apr-2010; PackageVersion: revB, 2010; PackageReference: TMD06LCA; Publisher: Altium Limited; PackageDescription: Thin Micro SMD, 6 Bump, 0.4mm Pitch; Supplier 1: Digi-Key; Supplier Part Number 1: LM8801TME-1.82TR-ND; Supplier 2: Digi-Key; Supplier Part Number 2: LM8801TME-1.82CT-ND; Supplier 3: Digi-Key; Supplier Part Number 3: LM8801TME-1.82DKR-ND; RoHS: Y; PinCount: 6; ComponentLink1Description: LM8801 Datasheet; ComponentLink1URL: http://www.national.com/ds/LM/LM8801.pdf; ComponentLink2Description: LM8801 Web Page; ComponentLink2URL: http://www.national.com/pf/LM/LM8801.html
footprint TMD06LCA (Micro SMD, 6-Leads, Body 1.27x1.07mm, Pitch 0.4mm, NSC Recommended)
pins: A1 MODE (in), A2 VIN (power), B1 SW (power), B2 EN (in), C1 FB (in), C2 GND (power)

## LM8801TMX-1.82/NOPB
designator U?
High Precision 6MHz, 600 mA Synchronous Step-Down DC-DC Converter for Mobile Applications, 6 pin MICRO SMD; PartNumber: LM8801TMX-1.82/NOPB; Manufacturer: National Semiconductor; PackageTopMarking: XV*I E; PowerWise: Y; CompType: MiscPower; Published: 16-Nov-2010; DatasheetVersion: Apr-2010; PackageVersion: revB, 2010; PackageReference: TMD06LCA; Publisher: Altium Limited; PackageDescription: Thin Micro SMD, 6 Bump, 0.4mm Pitch; Supplier 1: Digi-Key; Supplier Part Number 1: LM8801TMX-1.82-ND; RoHS: Y; PinCount: 6; ComponentLink1Description: LM8801 Datasheet; ComponentLink1URL: http://www.national.com/ds/LM/LM8801.pdf; ComponentLink2Description: LM8801 Web Page; ComponentLink2URL: http://www.national.com/pf/LM/LM8801.html
footprint TMD06LCA (Micro SMD, 6-Leads, Body 1.27x1.07mm, Pitch 0.4mm, NSC Recommended)
pins: A1 MODE (in), A2 VIN (power), B1 SW (power), B2 EN (in), C1 FB (in), C2 GND (power)

## LM9044V
designator U?
Lambda Sensor Interface Amplifier, 20-pin PLCC; PartNumber: LM9044V; Manufacturer: National Semiconductor; PackageTopMarking: NSUZXYTTE#*LM9044V; PowerWise: N; CompType: MiscPower; Published: 4-Dec-2008; DatasheetVersion: Nov-2001; PackageVersion: revL, Dec-1993; PackageReference: V20A; Publisher: Altium Limited; PackageDescription: Plastic Chip Carrier, Sq., .050in Pitch, 20 Lead; RoHS: N; PinCount: 20; Code_JEDEC: MO-047-AA; Code_IPC: PLCC-20; ComponentLink1Description: LM9044 Datasheet; ComponentLink1URL: http://www.national.com/ds/LM/LM9044.pdf; ComponentLink2Description: LM9044 Web Page; ComponentLink2URL: http://www.national.com/pf/LM/LM9044.html; ComponentLink3Description: V20A Package Page; ComponentLink3URL: http://www.national.com/packaging/folders/v20a.html
footprint V20A_N (Leaded Chip Carrier, 20-Leads, Body 9x9mm, Pitch 1.27mm, IPC Medium Density)
footprint V20A_L (Leaded Chip Carrier, 20-Leads, Body 9x9mm, Pitch 1.27mm, IPC High Density)
footprint V20A_M (Leaded Chip Carrier, 20-Leads, Body 9x9mm, Pitch 1.27mm, IPC Low Density)
pins: 1 TRIM, 2 GND (power), 3 TRIM, 4 TRIM, 5 -IN (in), 6 TRIM, 7 +IN (in), 8 TRIM, 9 TRIM, 10 TRIM, 11 TRIM, 12 VOUT (out), 13 TRIM, 14 TRIM, 15 RF, 16 TRIM, 17 VCC (power), 18 TRIM, 19 TRIM, 20 VREF (in)

## LM9061M
designator U?
Power MOSFET Driver with Lossless Protection, 8-pin Narrow SOIC; PartNumber: LM9061M; Manufacturer: National Semiconductor; PackageTopMarking: NSZXTT*LM90*61M; PowerWise: N; CompType: MiscPower; Published: 4-Dec-2008; DatasheetVersion: Aug-2006; PackageVersion: revM, May-2009; PackageReference: M08A; Publisher: Altium Limited; PackageDescription: SOIC Narrow, 4.9 x 3.9 x 1.45mm, 8 Lead, 1.27mm Pitch; RoHS: N; PinCount: 8; Code_JEDEC: MS-012-AA; Code_IPC: SOIC127P600-8; ComponentLink1Description: LM9061 Datasheet; ComponentLink1URL: http://www.national.com/ds/LM/LM9061.pdf; ComponentLink2Description: LM9061 Web Page; ComponentLink2URL: http://www.national.com/pf/LM/LM9061.html; ComponentLink3Description: M08A Package Page; ComponentLink3URL: http://www.national.com/packaging/folders/m08a.html
footprint M08A_N (SOIC, 8-Leads, Body 4.9x3.9mm, Pitch 1.27mm, IPC Medium Density)
footprint M08A_L (SOIC, 8-Leads, Body 4.9x3.9mm, Pitch 1.27mm, IPC High Density)
footprint M08A_M (SOIC, 8-Leads, Body 4.9x3.9mm, Pitch 1.27mm, IPC Low Density)
pins: 1 SENSE (in), 2 THR (in), 3 GND (power), 4 OUT (out), 5 VCC (power), 6 IREF, 7 ON/OFF (in), 8 DELAY

## LM20146MH
designator U?
6A, Adjustable Frequency Synchronous Buck Regulator, 16-pin TSSOP-EP; PartNumber: LM20146MH; Manufacturer: National Semiconductor; PackageTopMarking: NSUZXYTT*L20146*MH; PowerWise: Y; CompType: MiscPower; Published: 29-May-2009; DatasheetVersion: Feb-2009; PackageVersion: revA, Apr-2003; PackageReference: MXA16A; Publisher: Altium Limited; PackageDescription: Molded TSSOP, Jedec, Exposed Pad, 5.0 x 4.4 x 0.9mm Body,16 Lead, 0.65mm Pitch; Supplier 1: Farnell; Supplier Part Number 1: 1699376; RoHS: Y; PinCount: 16; Code_JEDEC: MO-153-ABT; ComponentLink1Description: LM20146 Datasheet; ComponentLink1URL: http://www.national.com/ds/LM/LM20146.pdf; ComponentLink2Description: LM20146 Web Page; ComponentLink2URL: http://www.national.com/pf/LM/LM20146.html; ComponentLink3Description: MXA16A Package Page; ComponentLink3URL: http://www.national.com/packaging/folders/mxa16a.html
footprint MXA16A_N (TSOP, 16-Leads, Body 5x4.4mm, Pitch 0.65mm, Exposed Pad, IPC Medium Density)
footprint MXA16A_L (TSOP, 16-Leads, Body 5x4.4mm, Pitch 0.65mm, Exposed Pad, IPC High Density)
footprint MXA16A_M (TSOP, 16-Leads, Body 5x4.4mm, Pitch 0.65mm, Exposed Pad, IPC Low Density)
pins: 1 SS/TRK (in), 2 FB (in), 3 PGOOD (oc), 4 COMP, 5 NC, 6 PVIN (power), 7 PVIN (power), 8 SW (power), 9 SW (power), 10 PGND (power), 11 PGND (power), 12 EN (in), 13 VCC (power), 14 AVIN (power), 15 AGND (power), 16 RT (in), 17 EP (power)

## LM20146MH/NOPB
designator U?
6A, Adjustable Frequency Synchronous Buck Regulator, 16-pin TSSOP-EP, Pb-Free; PartNumber: LM20146MH/NOPB; Manufacturer: National Semiconductor; PackageTopMarking: NSUZXYTT*L20146*MH; PowerWise: Y; CompType: MiscPower; Published: 1-Mar-2010; DatasheetVersion: Feb-2009; PackageVersion: revA, Apr-2003; PackageReference: MXA16A; Publisher: Altium Limited; PackageDescription: Molded TSSOP, Jedec, Exposed Pad, 5.0 x 4.4 x 0.9mm Body,16 Lead, 0.65mm Pitch; Supplier 1: Digi-Key; Supplier Part Number 1: LM20146MH-ND; RoHS: Y; PinCount: 16; Code_JEDEC: MO-153-ABT; ComponentLink1Description: LM20146 Datasheet; ComponentLink1URL: http://www.national.com/ds/LM/LM20146.pdf; ComponentLink2Description: LM20146 Web Page; ComponentLink2URL: http://www.national.com/pf/LM/LM20146.html; ComponentLink3Description: MXA16A Package Page; ComponentLink3URL: http://www.national.com/packaging/folders/mxa16a.html
footprint MXA16A_N (TSOP, 16-Leads, Body 5x4.4mm, Pitch 0.65mm, Exposed Pad, IPC Medium Density)
footprint MXA16A_L (TSOP, 16-Leads, Body 5x4.4mm, Pitch 0.65mm, Exposed Pad, IPC High Density)
footprint MXA16A_M (TSOP, 16-Leads, Body 5x4.4mm, Pitch 0.65mm, Exposed Pad, IPC Low Density)
pins: 1 SS/TRK (in), 2 FB (in), 3 PGOOD (oc), 4 COMP, 5 NC, 6 PVIN (power), 7 PVIN (power), 8 SW (power), 9 SW (power), 10 PGND (power), 11 PGND (power), 12 EN (in), 13 VCC (power), 14 AVIN (power), 15 AGND (power), 16 RT (in), 17 EP (power)